# EAGLE library part NRF24L01+PA+LNA (library IGVC-Connector)
NRF24L01+PA+LNA
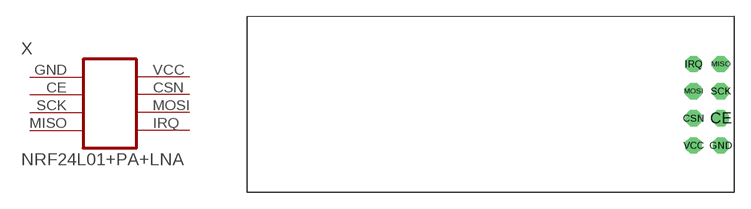
[diagram p1: symbol with the pads of NRF24L01+PA+LNA; footprint NRF24L01+PA+LNA]

Designator prefix X

## NRF24L01+PA+LNA  [NRF24L01+PA+LNA]
CE  CE  pas
CSN  CSN  pas
GND  GND  pwr
IRQ  IRQ  pas
MISO  MISO  pas
MOSI  MOSI  pas
SCK  SCK  pas
VCC  VCC  pwr

## Footprint NRF24L01+PA+LNA (pad centres in mm)
PIN HEADER
drill 1.016 octagon: CE 21.59,-0.68; CSN 19.05,-0.68; GND 21.59,-3.22; IRQ 19.05,4.4; MISO 21.59,4.4; MOSI 19.05,1.86; SCK 21.59,1.86; VCC 19.05,-3.22